# Altium footprint library ICs - Integrated Power MOSFETs.PcbLib: 1 footprints
Each footprint in its own frame and in the unit in brackets; x right, y up, seen from the top. Pads: shape width x height; smd on the part's side, far side on the other; paste and mask are expansions set on the pad; w line width, h text height; cw(c..) or ccw(c..) is an arc to the next point about the centre after c.
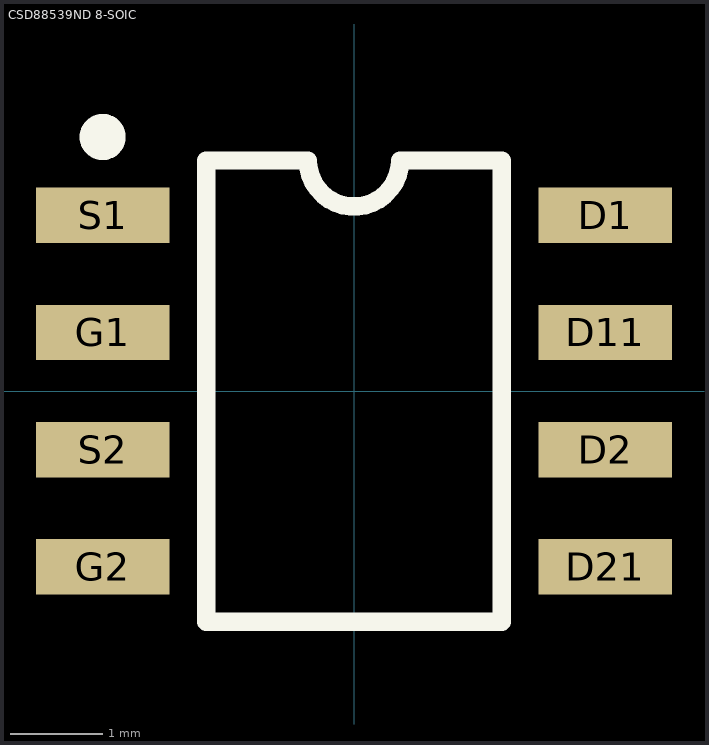
[diagram p0: the footprint, top view; thin cyan lines are the x and y axes]

## CSD88539ND 8-SOIC [mm] "Mosfet Array 2 N-Channel (Dual) 60V 15A 2.1W Surface Mount 8-SOIC"
height 1.75
pads (8):
  rect 1.45x0.6 smd: D1(2.725,1.905) D2(2.725,-0.635) D11(2.725,0.635) D21(2.725,-1.905) G1(-2.725,0.635) G2(-2.725,-1.905) S1(-2.725,1.905) S2(-2.725,-0.635)
Top Overlay:
  circle w0.25: c-2.725,2.755 r0.125
  lines w0.2: -1.6,-2.5 -1.6,2.5 -0.5,2.5 ccw(c0,2.5) 0.5,2.5 1.6,2.5 1.6,-2.5 -1.6,-2.5
3D body "User Library-SOIC8_JEDEC_MS-012AA.step": height 1.75, standoff -0.01, extent -3.099,-2.5 3.1,2.5